# Altium schematic symbol library 691 331 510 0xx.SchLib: 6 symbols
Pins are listed as number, name and electrical type; pins without a type are passive.

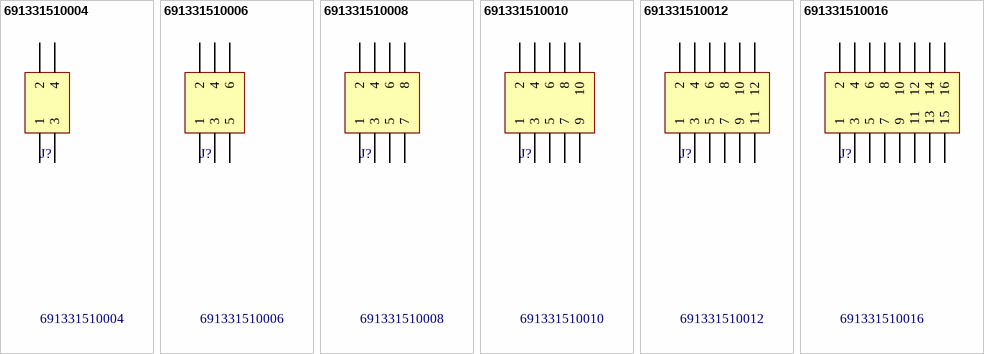
[diagram p0: symbols 691331510004 to 691331510016]

## 691331510004
designator J?
WR-TBL Terminal Blocks Serie 3315 - 5.08 mm; Manufacturer: Würth Elektronik eiSos GmbH; ComponentLink1 Description: Manufacturer; ComponentLink2 Description: Datasheet; NoPins: 04; Created Date: 31 March 2014; partNo: 691331510004; ComponentLink1URL: http://www.we-online.com; ComponentLink2URL: http://katalog.we-online.de/em/datasheet/6913315100xx.pdf; Created by: Karrer Zheng; Value: 691331510004
footprint 691331510004 (5,08mm - PCB - Dual row - Horizontal - 04p)
pins: 1, 2, 3, 4

## 691331510006
designator J?
WR-TBL Terminal Blocks Serie 3315 - 5.08 mm; Manufacturer: Würth Elektronik eiSos GmbH; ComponentLink1 Description: Manufacturer; ComponentLink2 Description: Datasheet; NoPins: 06; Created Date: 31 March 2014; partNo: 691331510006; ComponentLink1URL: http://www.we-online.com; ComponentLink2URL: http://katalog.we-online.de/em/datasheet/6913315100xx.pdf; Created by: Karrer Zheng; Value: 691331510006
footprint 691331510006 (5,08mm - PCB - Dual row - Horizontal - 06p)
pins: 1, 2, 3, 4, 5, 6

## 691331510008
designator J?
WR-TBL Terminal Blocks Serie 3315 - 5.08 mm; Manufacturer: Würth Elektronik eiSos GmbH; ComponentLink1 Description: Manufacturer; ComponentLink2 Description: Datasheet; NoPins: 08; Created Date: 31 March 2014; partNo: 691331510008; ComponentLink1URL: http://www.we-online.com; ComponentLink2URL: http://katalog.we-online.de/em/datasheet/6913315100xx.pdf; Created by: Karrer Zheng; Value: 691331510008
footprint 691331510008 (5,08mm - PCB - Dual row - Horizontal - 08p)
pins: 1, 2, 3, 4, 5, 6, 7, 8

## 691331510010
designator J?
WR-TBL Terminal Blocks Serie 3315 - 5.08 mm; Manufacturer: Würth Elektronik eiSos GmbH; ComponentLink1 Description: Manufacturer; ComponentLink2 Description: Datasheet; NoPins: 10; Created Date: 31 March 2014; partNo: 691331510010; ComponentLink1URL: http://www.we-online.com; ComponentLink2URL: http://katalog.we-online.de/em/datasheet/6913315100xx.pdf; Created by: Karrer Zheng; Value: 691331510010
footprint 691331510010 (5,08mm - PCB - Dual row - Horizontal - 10p)
pins: 1, 2, 3, 4, 5, 6, 7, 8, 9, 10

## 691331510012
designator J?
WR-TBL Terminal Blocks Serie 3315 - 5.08 mm; Manufacturer: Würth Elektronik eiSos GmbH; ComponentLink1 Description: Manufacturer; ComponentLink2 Description: Datasheet; NoPins: 12; Created Date: 31 March 2014; partNo: 691331510012; ComponentLink1URL: http://www.we-online.com; ComponentLink2URL: http://katalog.we-online.de/em/datasheet/6913315100xx.pdf; Created by: Karrer Zheng; Value: 691331510012
footprint 691331510012 (5,08mm - PCB - Dual row - Horizontal - 12p)
pins: 1, 2, 3, 4, 5, 6, 7, 8, 9, 10, 11, 12

## 691331510016
designator J?
WR-TBL Terminal Blocks Serie 3315 - 5.08 mm; Manufacturer: Würth Elektronik eiSos GmbH; ComponentLink1 Description: Manufacturer; ComponentLink2 Description: Datasheet; NoPins: 16; Created Date: 31 March 2014; partNo: 691331510016; ComponentLink1URL: http://www.we-online.com; ComponentLink2URL: http://katalog.we-online.de/em/datasheet/6913315100xx.pdf; Created by: Karrer Zheng; Value: 691331510016
footprint 691331510016 (5,08mm - PCB - Dual row - Horizontal - 16p)
pins: 1, 2, 3, 4, 5, 6, 7, 8, 9, 10, 11, 12, 13, 14, 15, 16